# Altium schematic symbol library Schlib1.SchLib: 5 symbols
Pins are listed as number, name and electrical type; pins without a type are passive.

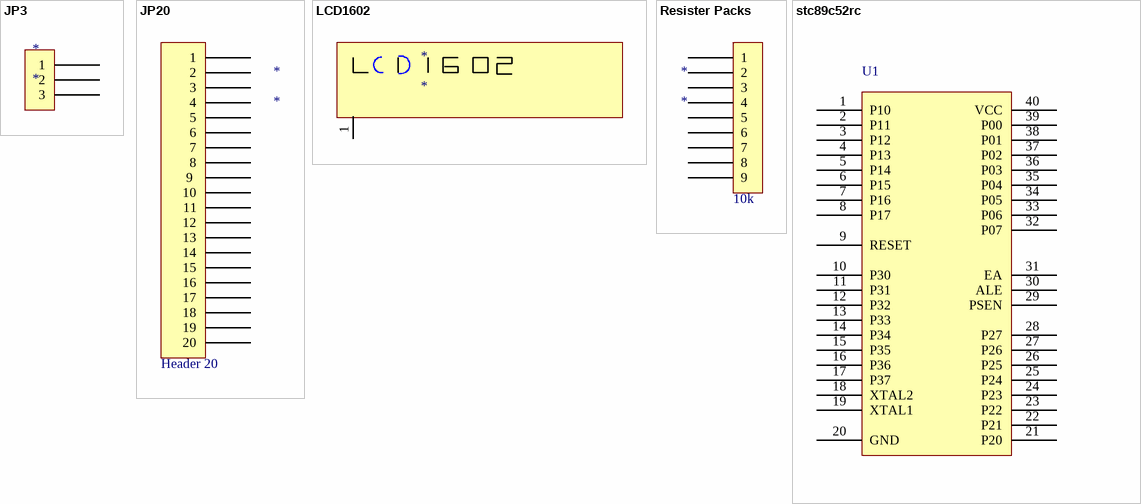
[diagram p0: symbols JP3 to stc89c52rc]

## JP3
designator *
pins: 1, 2, 3

## JP20
designator *
pins: ?1 1, ?2 2, ?3 3, ?4 4, ?5 5, ?6 6, ?7 7, ?8 8, ?9 9 , ?10 10, ?11 11, ?12 12, ?13 13, ?14 14, ?15 15, ?16 16, ?17 17, ?18 18, ?19 19, ?20 20
text: Header 20

## LCD1602
designator *
pins: 1 GND

## Resister Packs
designator *
pins: ?1 1, ?2 2, ?3 3, ?4 4, ?5 5, ?6 6, ?7 7 , ?8 8 , ?9 9
text: 10k

## stc89c52rc
designator *
pins: 1 P10, 2 P11, 3 P12, 4 P13, 5 P14, 6 P15, 7 P16, 8 P17, 9 RESET, 10 P30, 11 P31, 12 P32, 13 P33, 14 P34, 15 P35, 16 P36, 17 P37, 18 XTAL2, 19 XTAL1, 20 GND, 21 P20, 22 P21, 23 P22, 24 P23, 25 P24, 26 P25, 27 P26, 28 P27, 29 PSEN, 30 ALE, 31 EA, 32 P07, 33 P06, 34 P05, 35 P04, 36 P03, 37 P02, 38 P01, 39 P00, 40 VCC
text: U1